# Altium schematic symbol library etx-board.SCHLIB: 7 symbols
Pins are listed as number, name and electrical type; pins without a type are passive.

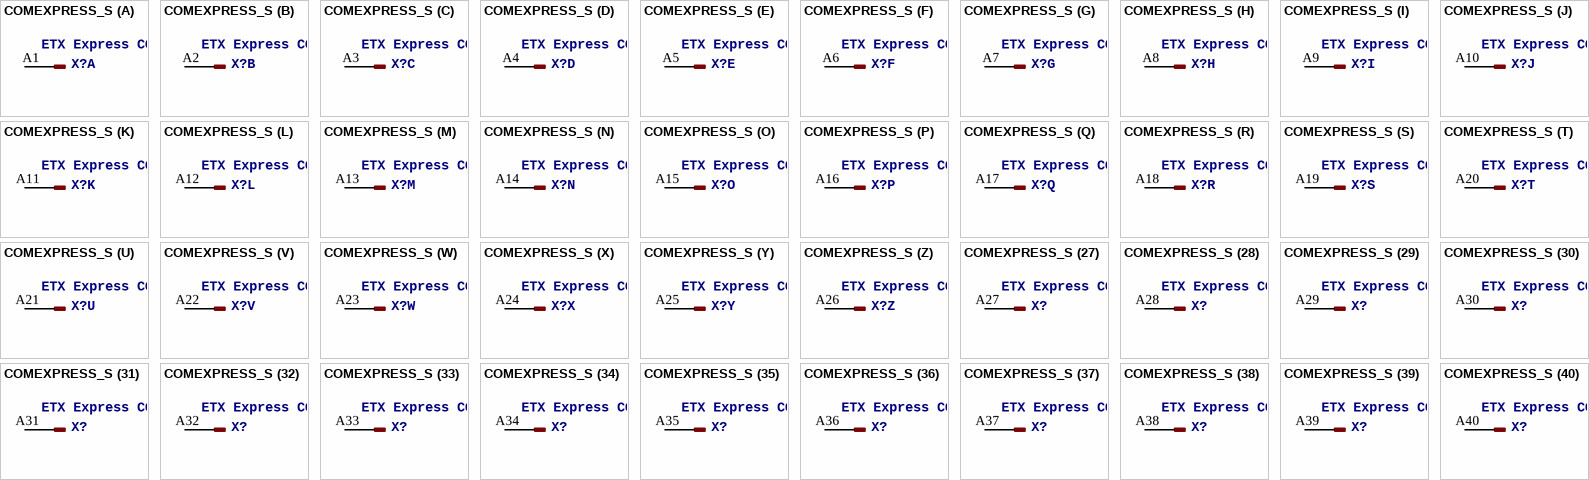
[diagram p0: symbol COMEXPRESS_S]

## COMEXPRESS_S
designator X?, comment ETX Express COM Express   Device generated with split-gate-in-device-to-single-gates.ulp from C-5353652-36-3.dev   at 04.12.08 14:01:30 with EAGLE Version 5.3.5 Copyright (c) 1988-2008 CadSoft Source: http://catalog.tycoelectronics.com .. ENG_CS_889092_0.5mm_FH_Conn_0906.pdf http://nordic.kontron.com/searchresult/?searchterm=etxe_designguide_v1.4.pdf
footprint C-5353652-36-3
part A pins: A1 1
part B pins: A2 1
part C pins: A3 1
part D pins: A4 1
part E pins: A5 1
part F pins: A6 1
part G pins: A7 1
part H pins: A8 1
part I pins: A9 1
part J pins: A10 1
part K pins: A11 1
part L pins: A12 1
part M pins: A13 1
part N pins: A14 1
part O pins: A15 1
part P pins: A16 1
part Q pins: A17 1
part R pins: A18 1
part S pins: A19 1
part T pins: A20 1
part U pins: A21 1
part V pins: A22 1
part W pins: A23 1
part X pins: A24 1
part Y pins: A25 1
part Z pins: A26 1
part 27 pins: A27 1
part 28 pins: A28 1
part 29 pins: A29 1
part 30 pins: A30 1
part 31 pins: A31 1
part 32 pins: A32 1
part 33 pins: A33 1
part 34 pins: A34 1
part 35 pins: A35 1
part 36 pins: A36 1
part 37 pins: A37 1
part 38 pins: A38 1
part 39 pins: A39 1
part 40 pins: A40 1
part 41 pins: A41 1
part 42 pins: A42 1
part 43 pins: A43 1
part 44 pins: A44 1
part 45 pins: A45 1
part 46 pins: A46 1
part 47 pins: A47 1
part 48 pins: A48 1
part 49 pins: A49 1
part 50 pins: A50 1
part 51 pins: A51 1
part 52 pins: A52 1
part 53 pins: A53 1
part 54 pins: A54 1
part 55 pins: A55 1
part 56 pins: A56 1
part 57 pins: A57 1
part 58 pins: A58 1
part 59 pins: A59 1
part 60 pins: A60 1
part 61 pins: A61 1
part 62 pins: A62 1
part 63 pins: A63 1
part 64 pins: A64 1
part 65 pins: A65 1
part 66 pins: A66 1
part 67 pins: A67 1
part 68 pins: A68 1
part 69 pins: A69 1
part 70 pins: A70 1
part 71 pins: A71 1
part 72 pins: A72 1
part 73 pins: A73 1
part 74 pins: A74 1
part 75 pins: A75 1
part 76 pins: A76 1
part 77 pins: A77 1
part 78 pins: A78 1
part 79 pins: A79 1
part 80 pins: A80 1
part 81 pins: A81 1
part 82 pins: A82 1
part 83 pins: A83 1
part 84 pins: A84 1
part 85 pins: A85 1
part 86 pins: A86 1
part 87 pins: A87 1
part 88 pins: A88 1
part 89 pins: A89 1
part 90 pins: A90 1
part 91 pins: A91 1
part 92 pins: A92 1
part 93 pins: A93 1
part 94 pins: A94 1
part 95 pins: A95 1
part 96 pins: A96 1
part 97 pins: A97 1
part 98 pins: A98 1
part 99 pins: A99 1
part 100 pins: A100 1
part 101 pins: A101 1
part 102 pins: A102 1
part 103 pins: A103 1
part 104 pins: A104 1
part 105 pins: A105 1
part 106 pins: A106 1
part 107 pins: A107 1
part 108 pins: A108 1
part 109 pins: A109 1
part 110 pins: A110 1
part 111 pins: B1 1
part 112 pins: B2 1
part 113 pins: B3 1
part 114 pins: B4 1
part 115 pins: B5 1
part 116 pins: B6 1
part 117 pins: B7 1
part 118 pins: B8 1
part 119 pins: B9 1
part 120 pins: B10 1
part 121 pins: B11 1
part 122 pins: B12 1
part 123 pins: B13 1
part 124 pins: B14 1
part 125 pins: B15 1
part 126 pins: B16 1
part 127 pins: B17 1
part 128 pins: B18 1
part 129 pins: B19 1
part 130 pins: B20 1
part 131 pins: B21 1
part 132 pins: B22 1
part 133 pins: B23 1
part 134 pins: B24 1
part 135 pins: B25 1
part 136 pins: B26 1
part 137 pins: B27 1
part 138 pins: B28 1
part 139 pins: B29 1
part 140 pins: B30 1
part 141 pins: B31 1
part 142 pins: B32 1
part 143 pins: B33 1
part 144 pins: B34 1
part 145 pins: B35 1
part 146 pins: B36 1
part 147 pins: B37 1
part 148 pins: B38 1
part 149 pins: B39 1
part 150 pins: B40 1
part 151 pins: B41 1
part 152 pins: B42 1
part 153 pins: B43 1
part 154 pins: B44 1
part 155 pins: B45 1
part 156 pins: B46 1
part 157 pins: B47 1
part 158 pins: B48 1
part 159 pins: B49 1
part 160 pins: B50 1
part 161 pins: B51 1
part 162 pins: B52 1
part 163 pins: B53 1
part 164 pins: B54 1
part 165 pins: B55 1
part 166 pins: B56 1
part 167 pins: B57 1
part 168 pins: B58 1
part 169 pins: B59 1
part 170 pins: B60 1
part 171 pins: B61 1
part 172 pins: B62 1
part 173 pins: B63 1
part 174 pins: B64 1
part 175 pins: B65 1
part 176 pins: B66 1
part 177 pins: B67 1
part 178 pins: B68 1
part 179 pins: B69 1
part 180 pins: B70 1
part 181 pins: B71 1
part 182 pins: B72 1
part 183 pins: B73 1
part 184 pins: B74 1
part 185 pins: B75 1
part 186 pins: B76 1
part 187 pins: B77 1
part 188 pins: B78 1
part 189 pins: B79 1
part 190 pins: B80 1
part 191 pins: B81 1
part 192 pins: B82 1
part 193 pins: B83 1
part 194 pins: B84 1
part 195 pins: B85 1
part 196 pins: B86 1
part 197 pins: B87 1
part 198 pins: B88 1
part 199 pins: B89 1
part 200 pins: B90 1
part 201 pins: B91 1
part 202 pins: B92 1
part 203 pins: B93 1
part 204 pins: B94 1
part 205 pins: B95 1
part 206 pins: B96 1
part 207 pins: B97 1
part 208 pins: B98 1
part 209 pins: B99 1
part 210 pins: B100 1
part 211 pins: B101 1
part 212 pins: B102 1
part 213 pins: B103 1
part 214 pins: B104 1
part 215 pins: B105 1
part 216 pins: B106 1
part 217 pins: B107 1
part 218 pins: B108 1
part 219 pins: B109 1
part 220 pins: B110 1
part 221 pins: C1 1
part 222 pins: C2 1
part 223 pins: C3 1
part 224 pins: C4 1
part 225 pins: C5 1
part 226 pins: C6 1
part 227 pins: C7 1
part 228 pins: C8 1
part 229 pins: C9 1
part 230 pins: C10 1
part 231 pins: C11 1
part 232 pins: C12 1
part 233 pins: C13 1
part 234 pins: C14 1
part 235 pins: C15 1
part 236 pins: C16 1
part 237 pins: C17 1
part 238 pins: C18 1
part 239 pins: C19 1
part 240 pins: C20 1
part 241 pins: C21 1
part 242 pins: C22 1
part 243 pins: C23 1
part 244 pins: C24 1
part 245 pins: C25 1
part 246 pins: C26 1
part 247 pins: C27 1
part 248 pins: C28 1
part 249 pins: C29 1
part 250 pins: C30 1
part 251 pins: C31 1
part 252 pins: C32 1
part 253 pins: C33 1
part 254 pins: C34 1
part 255 pins: C35 1
part 256 pins: C36 1
part 257 pins: C37 1
part 258 pins: C38 1
part 259 pins: C39 1
part 260 pins: C40 1
part 261 pins: C41 1
part 262 pins: C42 1
part 263 pins: C43 1
part 264 pins: C44 1
part 265 pins: C45 1
part 266 pins: C46 1
part 267 pins: C47 1
part 268 pins: C48 1
part 269 pins: C49 1
part 270 pins: C50 1
part 271 pins: C51 1
part 272 pins: C52 1
part 273 pins: C53 1
part 274 pins: C54 1
part 275 pins: C55 1
part 276 pins: C56 1
part 277 pins: C57 1
part 278 pins: C58 1
part 279 pins: C59 1
part 280 pins: C60 1
part 281 pins: C61 1
part 282 pins: C62 1
part 283 pins: C63 1
part 284 pins: C64 1
part 285 pins: C65 1
part 286 pins: C66 1
part 287 pins: C67 1
part 288 pins: C68 1
part 289 pins: C69 1
part 290 pins: C70 1
part 291 pins: C71 1
part 292 pins: C72 1
part 293 pins: C73 1
part 294 pins: C74 1
part 295 pins: C75 1
part 296 pins: C76 1
part 297 pins: C77 1
part 298 pins: C78 1
part 299 pins: C79 1
part 300 pins: C80 1
part 301 pins: C81 1
part 302 pins: C82 1
part 303 pins: C83 1
part 304 pins: C84 1
part 305 pins: C85 1
part 306 pins: C86 1
part 307 pins: C87 1
part 308 pins: C88 1
part 309 pins: C89 1
part 310 pins: C90 1
part 311 pins: C91 1
part 312 pins: C92 1
part 313 pins: C93 1
part 314 pins: C94 1
part 315 pins: C95 1
part 316 pins: C96 1
part 317 pins: C97 1
part 318 pins: C98 1
part 319 pins: C99 1
part 320 pins: C100 1
part 321 pins: C101 1
part 322 pins: C102 1
part 323 pins: C103 1
part 324 pins: C104 1
part 325 pins: C105 1
part 326 pins: C106 1
part 327 pins: C107 1
part 328 pins: C108 1
part 329 pins: C109 1
part 330 pins: C110 1
part 331 pins: D1 1
part 332 pins: D2 1
part 333 pins: D3 1
part 334 pins: D4 1
part 335 pins: D5 1
part 336 pins: D6 1
part 337 pins: D7 1
part 338 pins: D8 1
part 339 pins: D9 1
part 340 pins: D10 1
part 341 pins: D11 1
part 342 pins: D12 1
part 343 pins: D13 1
part 344 pins: D14 1
part 345 pins: D15 1
part 346 pins: D16 1
part 347 pins: D17 1
part 348 pins: D18 1
part 349 pins: D19 1
part 350 pins: D20 1
part 351 pins: D21 1
part 352 pins: D22 1
part 353 pins: D23 1
part 354 pins: D24 1
part 355 pins: D25 1
part 356 pins: D26 1
part 357 pins: D27 1
part 358 pins: D28 1
part 359 pins: D29 1
part 360 pins: D30 1
part 361 pins: D31 1
part 362 pins: D32 1
part 363 pins: D33 1
part 364 pins: D34 1
part 365 pins: D35 1
part 366 pins: D36 1
part 367 pins: D37 1
part 368 pins: D38 1
part 369 pins: D39 1
part 370 pins: D40 1
part 371 pins: D41 1
part 372 pins: D42 1
part 373 pins: D43 1
part 374 pins: D44 1
part 375 pins: D45 1
part 376 pins: D46 1
part 377 pins: D47 1
part 378 pins: D48 1
part 379 pins: D49 1
part 380 pins: D50 1
part 381 pins: D51 1
part 382 pins: D52 1
part 383 pins: D53 1
part 384 pins: D54 1
part 385 pins: D55 1
part 386 pins: D56 1
part 387 pins: D57 1
part 388 pins: D58 1
part 389 pins: D59 1
part 390 pins: D60 1
part 391 pins: D61 1
part 392 pins: D62 1
part 393 pins: D63 1
part 394 pins: D64 1
part 395 pins: D65 1
part 396 pins: D66 1
part 397 pins: D67 1
part 398 pins: D68 1
part 399 pins: D69 1
part 400 pins: D70 1
part 401 pins: D71 1
part 402 pins: D72 1
part 403 pins: D73 1
part 404 pins: D74 1
part 405 pins: D75 1
part 406 pins: D76 1
part 407 pins: D77 1
part 408 pins: D78 1
part 409 pins: D79 1
part 410 pins: D80 1
part 411 pins: D81 1
part 412 pins: D82 1
part 413 pins: D83 1
part 414 pins: D84 1
part 415 pins: D85 1
part 416 pins: D86 1
part 417 pins: D87 1
part 418 pins: D88 1
part 419 pins: D89 1
part 420 pins: D90 1
part 421 pins: D91 1
part 422 pins: D92 1
part 423 pins: D93 1
part 424 pins: D94 1
part 425 pins: D95 1
part 426 pins: D96 1
part 427 pins: D97 1
part 428 pins: D98 1
part 429 pins: D99 1
part 430 pins: D100 1
part 431 pins: D101 1
part 432 pins: D102 1
part 433 pins: D103 1
part 434 pins: D104 1
part 435 pins: D105 1
part 436 pins: D106 1
part 437 pins: D107 1
part 438 pins: D108 1
part 439 pins: D109 1
part 440 pins: D110 1

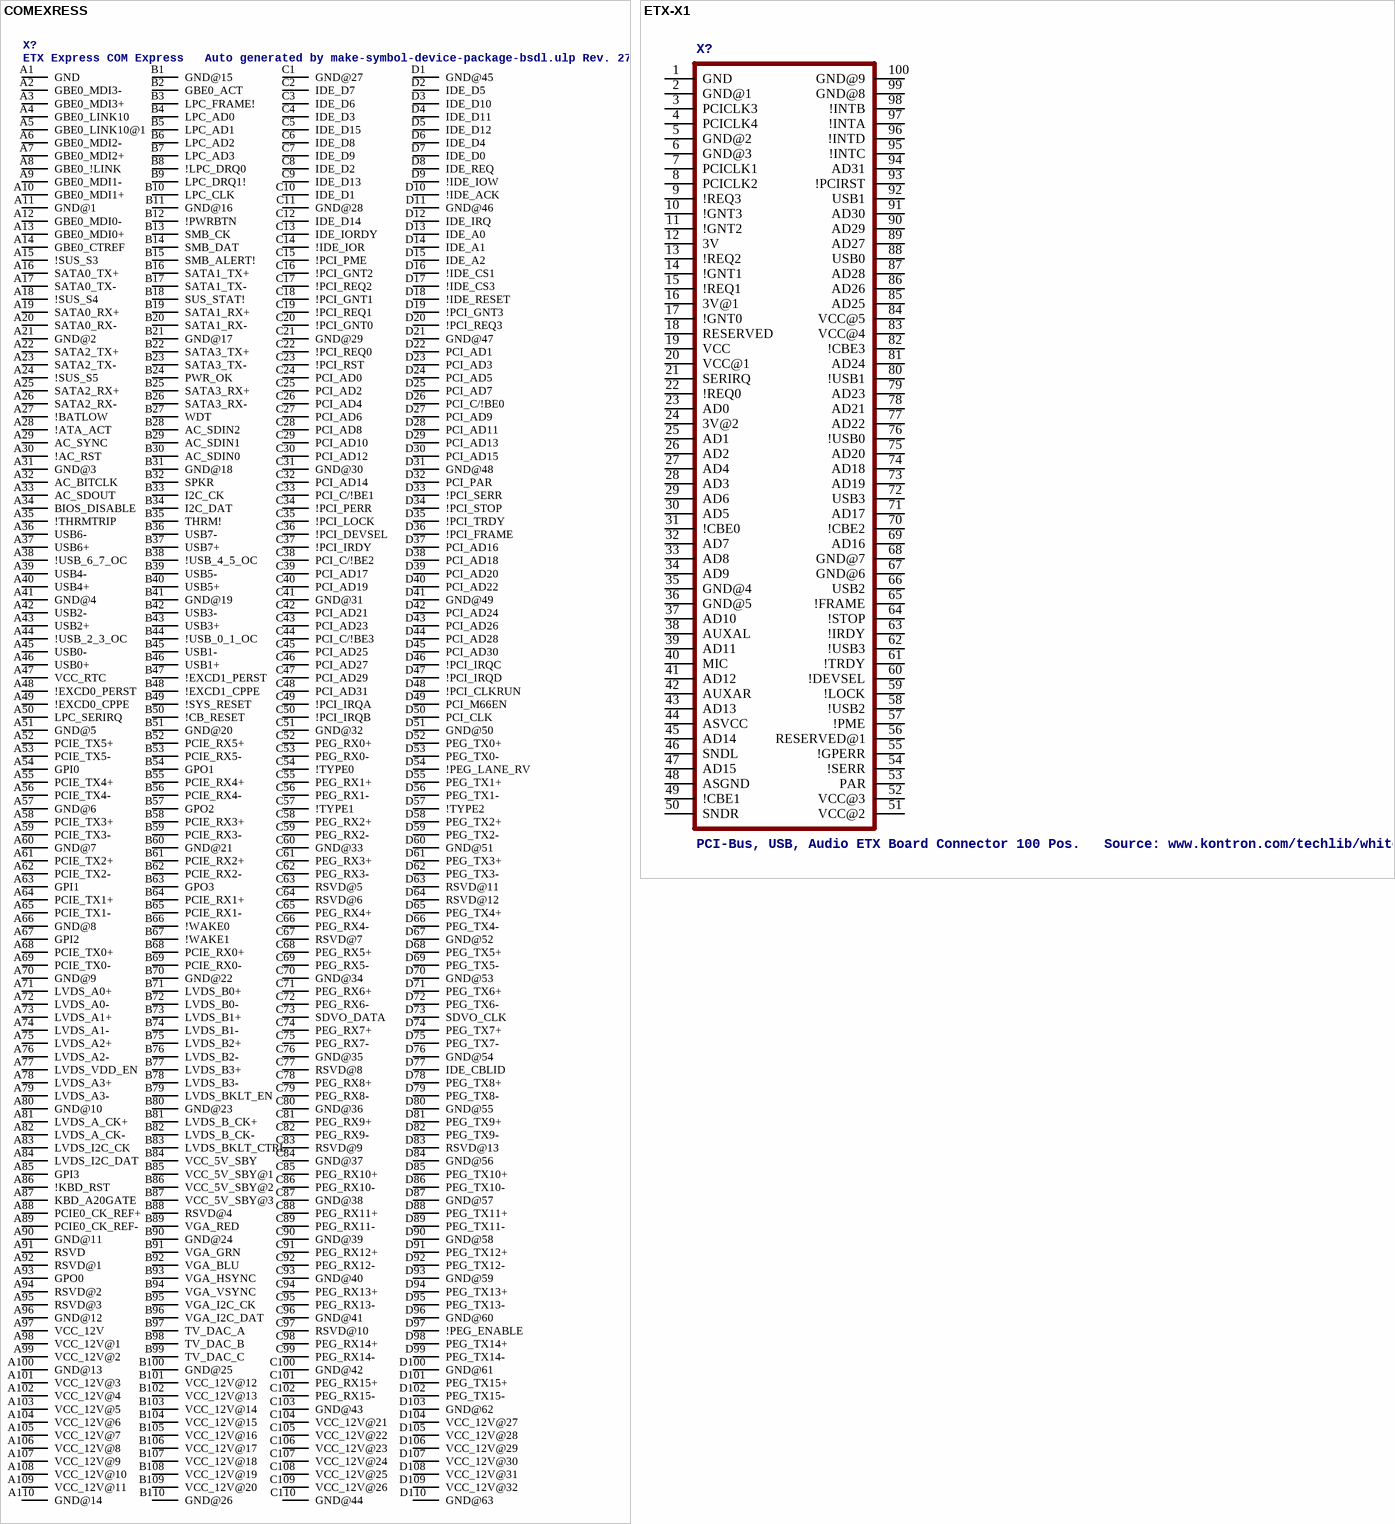
[diagram p1: symbols COMEXRESS to ETX-X1]

## COMEXRESS
designator X?, comment ETX Express COM Express   Auto generated by make-symbol-device-package-bsdl.ulp Rev. 27 Source: http://catalog.tycoelectronics.com .. ENG_CS_889092_0.5mm_FH_Conn_0906.pdf http://nordic.kontron.com/searchresult/?searchterm=etxe_designguide_v1.4.pdf
footprint C-5353652-36-3
pins: A1 GND, A2 GBE0_MDI3-, A3 GBE0_MDI3+, A4 GBE0_LINK10, A5 GBE0_LINK10@1, A6 GBE0_MDI2-, A7 GBE0_MDI2+, A8 GBE0_!LINK, A9 GBE0_MDI1-, A10 GBE0_MDI1+, A11 GND@1, A12 GBE0_MDI0-, A13 GBE0_MDI0+, A14 GBE0_CTREF, A15 !SUS_S3, A16 SATA0_TX+, A17 SATA0_TX-, A18 !SUS_S4, A19 SATA0_RX+, A20 SATA0_RX-, A21 GND@2, A22 SATA2_TX+, A23 SATA2_TX-, A24 !SUS_S5, A25 SATA2_RX+, A26 SATA2_RX-, A27 !BATLOW, A28 !ATA_ACT, A29 AC_SYNC, A30 !AC_RST, A31 GND@3, A32 AC_BITCLK, A33 AC_SDOUT, A34 BIOS_DISABLE, A35 !THRMTRIP, A36 USB6-, A37 USB6+, A38 !USB_6_7_OC, A39 USB4-, A40 USB4+, A41 GND@4, A42 USB2-, A43 USB2+, A44 !USB_2_3_OC, A45 USB0-, A46 USB0+, A47 VCC_RTC, A48 !EXCD0_PERST, A49 !EXCD0_CPPE, A50 LPC_SERIRQ, A51 GND@5, A52 PCIE_TX5+, A53 PCIE_TX5-, A54 GPI0, A55 PCIE_TX4+, A56 PCIE_TX4-, A57 GND@6, A58 PCIE_TX3+, A59 PCIE_TX3-, A60 GND@7, A61 PCIE_TX2+, A62 PCIE_TX2-, A63 GPI1, A64 PCIE_TX1+, A65 PCIE_TX1-, A66 GND@8, A67 GPI2, A68 PCIE_TX0+, A69 PCIE_TX0-, A70 GND@9, A71 LVDS_A0+, A72 LVDS_A0-, A73 LVDS_A1+, A74 LVDS_A1-, A75 LVDS_A2+, A76 LVDS_A2-, A77 LVDS_VDD_EN, A78 LVDS_A3+, A79 LVDS_A3-, A80 GND@10, A81 LVDS_A_CK+, A82 LVDS_A_CK-, A83 LVDS_I2C_CK, A84 LVDS_I2C_DAT, A85 GPI3, A86 !KBD_RST, A87 KBD_A20GATE, A88 PCIE0_CK_REF+, A89 PCIE0_CK_REF-, A90 GND@11, A91 RSVD, A92 RSVD@1, A93 GPO0, A94 RSVD@2, A95 RSVD@3, A96 GND@12, A97 VCC_12V, A98 VCC_12V@1, A99 VCC_12V@2, A100 GND@13, A101 VCC_12V@3, A102 VCC_12V@4, A103 VCC_12V@5, A104 VCC_12V@6, A105 VCC_12V@7, A106 VCC_12V@8, A107 VCC_12V@9, A108 VCC_12V@10, A109 VCC_12V@11, A110 GND@14, B1 GND@15, B2 GBE0_ACT, B3 LPC_FRAME!, B4 LPC_AD0, B5 LPC_AD1, B6 LPC_AD2, B7 LPC_AD3, B8 !LPC_DRQ0, B9 LPC_DRQ1!, B10 LPC_CLK, B11 GND@16, B12 !PWRBTN, B13 SMB_CK, B14 SMB_DAT, B15 SMB_ALERT!, B16 SATA1_TX+, B17 SATA1_TX-, B18 SUS_STAT!, B19 SATA1_RX+, B20 SATA1_RX-, B21 GND@17, B22 SATA3_TX+, B23 SATA3_TX-, B24 PWR_OK, B25 SATA3_RX+, B26 SATA3_RX-, B27 WDT, B28 AC_SDIN2, B29 AC_SDIN1, B30 AC_SDIN0, B31 GND@18, B32 SPKR, B33 I2C_CK, B34 I2C_DAT, B35 THRM!, B36 USB7-, B37 USB7+, B38 !USB_4_5_OC, B39 USB5-, B40 USB5+, B41 GND@19, B42 USB3-, B43 USB3+, B44 !USB_0_1_OC, B45 USB1-, B46 USB1+, B47 !EXCD1_PERST, B48 !EXCD1_CPPE, B49 !SYS_RESET, B50 !CB_RESET, B51 GND@20, B52 PCIE_RX5+, B53 PCIE_RX5-, B54 GPO1, B55 PCIE_RX4+, B56 PCIE_RX4-, B57 GPO2, B58 PCIE_RX3+, B59 PCIE_RX3-, B60 GND@21, B61 PCIE_RX2+, B62 PCIE_RX2-, B63 GPO3, B64 PCIE_RX1+, B65 PCIE_RX1-, B66 !WAKE0, B67 !WAKE1, B68 PCIE_RX0+, B69 PCIE_RX0-, B70 GND@22, B71 LVDS_B0+, B72 LVDS_B0-, B73 LVDS_B1+, B74 LVDS_B1-, B75 LVDS_B2+, B76 LVDS_B2-, B77 LVDS_B3+, B78 LVDS_B3-, B79 LVDS_BKLT_EN, B80 GND@23, B81 LVDS_B_CK+, B82 LVDS_B_CK-, B83 LVDS_BKLT_CTRL, B84 VCC_5V_SBY, B85 VCC_5V_SBY@1, B86 VCC_5V_SBY@2, B87 VCC_5V_SBY@3, B88 RSVD@4, B89 VGA_RED, B90 GND@24, B91 VGA_GRN, B92 VGA_BLU, B93 VGA_HSYNC, B94 VGA_VSYNC, B95 VGA_I2C_CK, B96 VGA_I2C_DAT, B97 TV_DAC_A, B98 TV_DAC_B, B99 TV_DAC_C, B100 GND@25, B101 VCC_12V@12, B102 VCC_12V@13, B103 VCC_12V@14, B104 VCC_12V@15, B105 VCC_12V@16, B106 VCC_12V@17, B107 VCC_12V@18, B108 VCC_12V@19, B109 VCC_12V@20, B110 GND@26, C1 GND@27, C2 IDE_D7, C3 IDE_D6, C4 IDE_D3, C5 IDE_D15, C6 IDE_D8, C7 IDE_D9, C8 IDE_D2, C9 IDE_D13, C10 IDE_D1, C11 GND@28, C12 IDE_D14, C13 IDE_IORDY, C14 !IDE_IOR, C15 !PCI_PME, C16 !PCI_GNT2, C17 !PCI_REQ2, C18 !PCI_GNT1, C19 !PCI_REQ1, C20 !PCI_GNT0, C21 GND@29, C22 !PCI_REQ0, C23 !PCI_RST, C24 PCI_AD0, C25 PCI_AD2, C26 PCI_AD4, C27 PCI_AD6, C28 PCI_AD8, C29 PCI_AD10, C30 PCI_AD12, C31 GND@30, C32 PCI_AD14, C33 PCI_C/!BE1, C34 !PCI_PERR, C35 !PCI_LOCK, C36 !PCI_DEVSEL, C37 !PCI_IRDY, C38 PCI_C/!BE2, C39 PCI_AD17, C40 PCI_AD19, C41 GND@31, C42 PCI_AD21, C43 PCI_AD23, C44 PCI_C/!BE3, C45 PCI_AD25, C46 PCI_AD27, C47 PCI_AD29, C48 PCI_AD31, C49 !PCI_IRQA, C50 !PCI_IRQB, C51 GND@32, C52 PEG_RX0+, C53 PEG_RX0-, C54 !TYPE0, C55 PEG_RX1+, C56 PEG_RX1-, C57 !TYPE1, C58 PEG_RX2+, C59 PEG_RX2-, C60 GND@33, C61 PEG_RX3+, C62 PEG_RX3-, C63 RSVD@5, C64 RSVD@6, C65 PEG_RX4+, C66 PEG_RX4-, C67 RSVD@7, C68 PEG_RX5+, C69 PEG_RX5-, C70 GND@34, C71 PEG_RX6+, C72 PEG_RX6-, C73 SDVO_DATA, C74 PEG_RX7+, C75 PEG_RX7-, C76 GND@35, C77 RSVD@8, C78 PEG_RX8+, C79 PEG_RX8-, C80 GND@36, C81 PEG_RX9+, C82 PEG_RX9-, C83 RSVD@9, C84 GND@37, C85 PEG_RX10+, C86 PEG_RX10-, C87 GND@38, C88 PEG_RX11+, C89 PEG_RX11-, C90 GND@39, C91 PEG_RX12+, C92 PEG_RX12-, C93 GND@40, C94 PEG_RX13+, C95 PEG_RX13-, C96 GND@41, C97 RSVD@10, C98 PEG_RX14+, C99 PEG_RX14-, C100 GND@42, C101 PEG_RX15+, C102 PEG_RX15-, C103 GND@43, C104 VCC_12V@21, C105 VCC_12V@22, C106 VCC_12V@23, C107 VCC_12V@24, C108 VCC_12V@25, C109 VCC_12V@26, C110 GND@44, D1 GND@45, D2 IDE_D5, D3 IDE_D10, D4 IDE_D11, D5 IDE_D12, D6 IDE_D4, D7 IDE_D0, D8 IDE_REQ, D9 !IDE_IOW, D10 !IDE_ACK, D11 GND@46, D12 IDE_IRQ, D13 IDE_A0, D14 IDE_A1, D15 IDE_A2, D16 !IDE_CS1, D17 !IDE_CS3, D18 !IDE_RESET, D19 !PCI_GNT3, D20 !PCI_REQ3, D21 GND@47, D22 PCI_AD1, D23 PCI_AD3, D24 PCI_AD5, D25 PCI_AD7, D26 PCI_C/!BE0, D27 PCI_AD9, D28 PCI_AD11, D29 PCI_AD13, D30 PCI_AD15, D31 GND@48, D32 PCI_PAR, D33 !PCI_SERR, D34 !PCI_STOP, D35 !PCI_TRDY, D36 !PCI_FRAME, D37 PCI_AD16, D38 PCI_AD18, D39 PCI_AD20, D40 PCI_AD22, D41 GND@49, D42 PCI_AD24, D43 PCI_AD26, D44 PCI_AD28, D45 PCI_AD30, D46 !PCI_IRQC, D47 !PCI_IRQD, D48 !PCI_CLKRUN, D49 PCI_M66EN, D50 PCI_CLK, D51 GND@50, D52 PEG_TX0+, D53 PEG_TX0-, D54 !PEG_LANE_RV, D55 PEG_TX1+, D56 PEG_TX1-, D57 !TYPE2, D58 PEG_TX2+, D59 PEG_TX2-, D60 GND@51, D61 PEG_TX3+, D62 PEG_TX3-, D63 RSVD@11, D64 RSVD@12, D65 PEG_TX4+, D66 PEG_TX4-, D67 GND@52, D68 PEG_TX5+, D69 PEG_TX5-, D70 GND@53, D71 PEG_TX6+, D72 PEG_TX6-, D73 SDVO_CLK, D74 PEG_TX7+, D75 PEG_TX7-, D76 GND@54, D77 IDE_CBLID, D78 PEG_TX8+, D79 PEG_TX8-, D80 GND@55, D81 PEG_TX9+, D82 PEG_TX9-, D83 RSVD@13, D84 GND@56, D85 PEG_TX10+, D86 PEG_TX10-, D87 GND@57, D88 PEG_TX11+, D89 PEG_TX11-, D90 GND@58, D91 PEG_TX12+, D92 PEG_TX12-, D93 GND@59, D94 PEG_TX13+, D95 PEG_TX13-, D96 GND@60, D97 !PEG_ENABLE, D98 PEG_TX14+, D99 PEG_TX14-, D100 GND@61, D101 PEG_TX15+, D102 PEG_TX15-, D103 GND@62, D104 VCC_12V@27, D105 VCC_12V@28, D106 VCC_12V@29, D107 VCC_12V@30, D108 VCC_12V@31, D109 VCC_12V@32, D110 GND@63

## ETX-X1
designator X?, comment PCI-Bus, USB, Audio ETX Board Connector 100 Pos.   Source: www.kontron.com/techlib/whitepapers/etx_spec.pdf
footprint FX8-100S-SV
pins: 1 GND (power), 2 GND@1 (power), 3 PCICLK3, 4 PCICLK4, 5 GND@2 (power), 6 GND@3 (power), 7 PCICLK1, 8 PCICLK2, 9 !REQ3, 10 !GNT3, 11 !GNT2, 12 3V (power), 13 !REQ2, 14 !GNT1, 15 !REQ1, 16 3V@1 (power), 17 !GNT0, 18 RESERVED, 19 VCC (power), 20 VCC@1 (power), 21 SERIRQ, 22 !REQ0, 23 AD0, 24 3V@2 (power), 25 AD1, 26 AD2, 27 AD4, 28 AD3, 29 AD6, 30 AD5, 31 !CBE0, 32 AD7, 33 AD8, 34 AD9, 35 GND@4 (power), 36 GND@5, 37 AD10, 38 AUXAL, 39 AD11, 40 MIC, 41 AD12, 42 AUXAR, 43 AD13, 44 ASVCC (power), 45 AD14, 46 SNDL, 47 AD15, 48 ASGND (power), 49 !CBE1, 50 SNDR, 51 VCC@2 (power), 52 VCC@3 (power), 53 PAR, 54 !SERR, 55 !GPERR, 56 RESERVED@1, 57 !PME, 58 !USB2, 59 !LOCK, 60 !DEVSEL, 61 !TRDY, 62 !USB3, 63 !IRDY, 64 !STOP, 65 !FRAME, 66 USB2, 67 GND@6 (power), 68 GND@7 (power), 69 AD16, 70 !CBE2, 71 AD17, 72 USB3, 73 AD19, 74 AD18, 75 AD20, 76 !USB0, 77 AD22, 78 AD21, 79 AD23, 80 !USB1, 81 AD24, 82 !CBE3, 83 VCC@4 (power), 84 VCC@5 (power), 85 AD25, 86 AD26, 87 AD28, 88 USB0, 89 AD27, 90 AD29, 91 AD30, 92 USB1, 93 !PCIRST, 94 AD31, 95 !INTC, 96 !INTD, 97 !INTA, 98 !INTB, 99 GND@8 (power), 100 GND@9 (power)

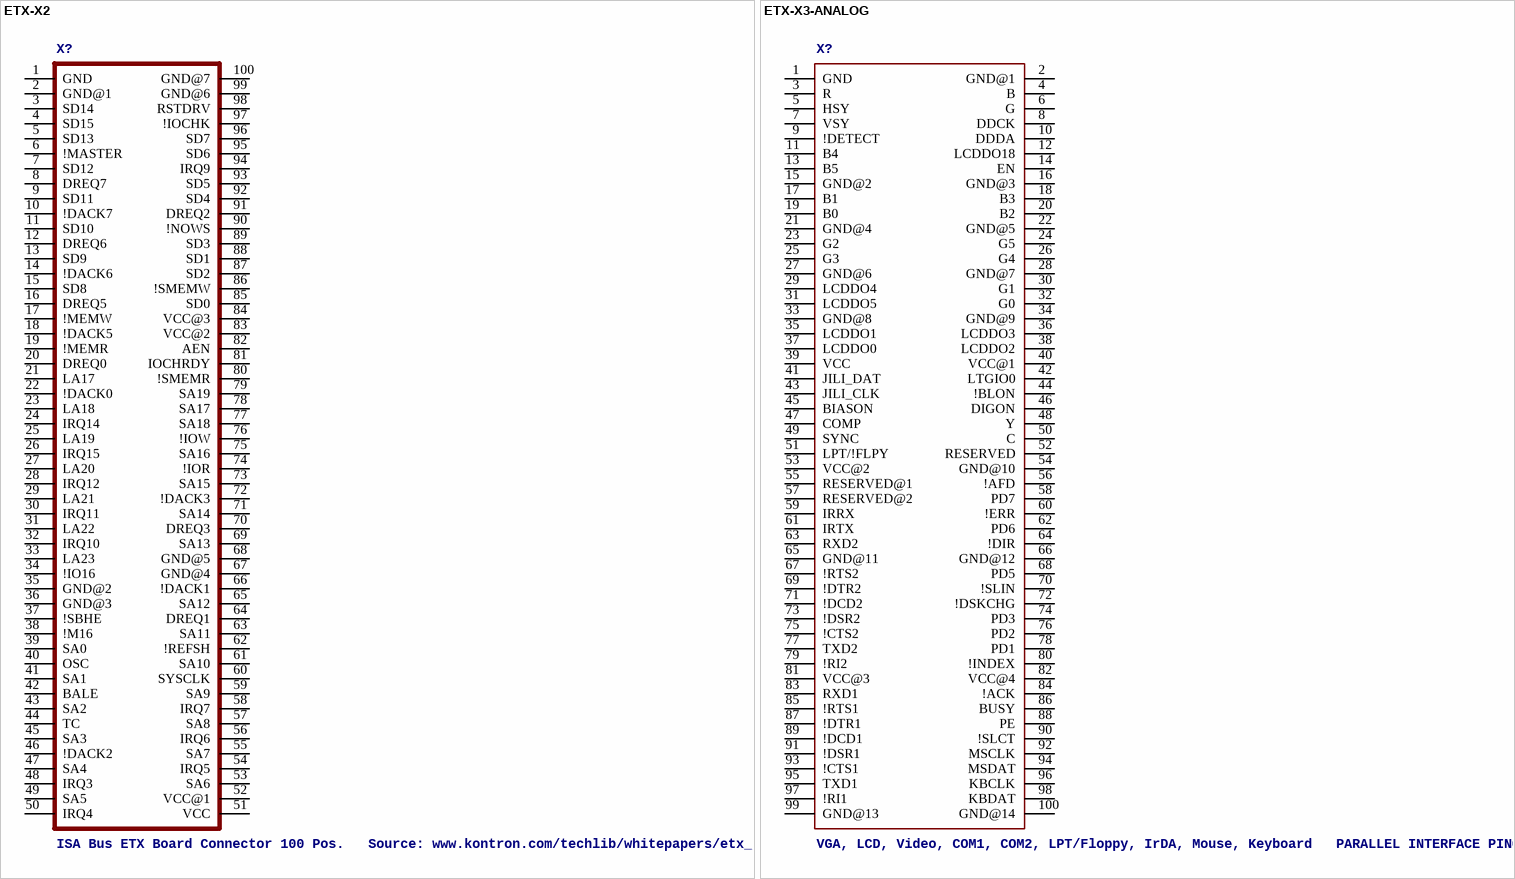
[diagram p2: symbols ETX-X2 to ETX-X3-ANALOG]

## ETX-X2
designator X?, comment ISA Bus ETX Board Connector 100 Pos.   Source: www.kontron.com/techlib/whitepapers/etx_spec.pdf
footprint FX8-100S-SV
pins: 1 GND (power), 2 GND@1 (power), 3 SD14, 4 SD15, 5 SD13, 6 !MASTER, 7 SD12, 8 DREQ7, 9 SD11, 10 !DACK7, 11 SD10, 12 DREQ6, 13 SD9, 14 !DACK6, 15 SD8, 16 DREQ5, 17 !MEMW, 18 !DACK5, 19 !MEMR, 20 DREQ0, 21 LA17, 22 !DACK0, 23 LA18, 24 IRQ14, 25 LA19, 26 IRQ15, 27 LA20, 28 IRQ12, 29 LA21, 30 IRQ11, 31 LA22, 32 IRQ10, 33 LA23, 34 !IO16, 35 GND@2 (power), 36 GND@3 (power), 37 !SBHE, 38 !M16, 39 SA0, 40 OSC, 41 SA1, 42 BALE, 43 SA2, 44 TC, 45 SA3, 46 !DACK2, 47 SA4, 48 IRQ3, 49 SA5, 50 IRQ4, 51 VCC (power), 52 VCC@1 (power), 53 SA6, 54 IRQ5, 55 SA7, 56 IRQ6, 57 SA8, 58 IRQ7, 59 SA9, 60 SYSCLK, 61 SA10, 62 !REFSH, 63 SA11, 64 DREQ1, 65 SA12, 66 !DACK1, 67 GND@4 (power), 68 GND@5 (power), 69 SA13, 70 DREQ3, 71 SA14, 72 !DACK3, 73 SA15, 74 !IOR, 75 SA16, 76 !IOW, 77 SA18, 78 SA17, 79 SA19, 80 !SMEMR, 81 IOCHRDY, 82 AEN, 83 VCC@2 (power), 84 VCC@3 (power), 85 SD0, 86 !SMEMW, 87 SD2, 88 SD1, 89 SD3, 90 !NOWS, 91 DREQ2, 92 SD4, 93 SD5, 94 IRQ9, 95 SD6, 96 SD7, 97 !IOCHK, 98 RSTDRV, 99 GND@6 (power), 100 GND@7 (power)

## ETX-X3-ANALOG
designator X?, comment VGA, LCD, Video, COM1, COM2, LPT/Floppy, IrDA, Mouse, Keyboard   PARALLEL INTERFACE PINOUT, FLOPPY SUPPORT MODE PINOUT ETX Board Connector 100 Pos. Source: www.kontron.com/techlib/whitepapers/etx_spec.pdf
footprint FX8-100S-SV
pins: 1 GND (power), 2 GND@1 (power), 3 R, 4 B, 5 HSY, 6 G, 7 VSY, 8 DDCK, 9 !DETECT, 10 DDDA, 11 B4, 12 LCDDO18, 13 B5, 14 EN, 15 GND@2 (power), 16 GND@3 (power), 17 B1, 18 B3, 19 B0, 20 B2, 21 GND@4 (power), 22 GND@5 (power), 23 G2, 24 G5, 25 G3, 26 G4, 27 GND@6 (power), 28 GND@7 (power), 29 LCDDO4, 30 G1, 31 LCDDO5, 32 G0, 33 GND@8 (power), 34 GND@9 (power), 35 LCDDO1, 36 LCDDO3, 37 LCDDO0, 38 LCDDO2, 39 VCC (power), 40 VCC@1 (power), 41 JILI_DAT, 42 LTGIO0, 43 JILI_CLK, 44 !BLON, 45 BIASON, 46 DIGON, 47 COMP, 48 Y, 49 SYNC, 50 C, 51 LPT/!FLPY, 52 RESERVED, 53 VCC@2 (power), 54 GND@10 (power), 55 RESERVED@1, 56 !AFD, 57 RESERVED@2, 58 PD7, 59 IRRX, 60 !ERR, 61 IRTX, 62 PD6, 63 RXD2, 64 !DIR, 65 GND@11 (power), 66 GND@12 (power), 67 !RTS2, 68 PD5, 69 !DTR2, 70 !SLIN, 71 !DCD2, 72 !DSKCHG, 73 !DSR2, 74 PD3, 75 !CTS2, 76 PD2, 77 TXD2, 78 PD1, 79 !RI2, 80 !INDEX, 81 VCC@3 (power), 82 VCC@4 (power), 83 RXD1, 84 !ACK, 85 !RTS1, 86 BUSY, 87 !DTR1, 88 PE, 89 !DCD1, 90 !SLCT, 91 !DSR1, 92 MSCLK, 93 !CTS1, 94 MSDAT, 95 TXD1, 96 KBCLK, 97 !RI1, 98 KBDAT, 99 GND@13 (power), 100 GND@14 (power)

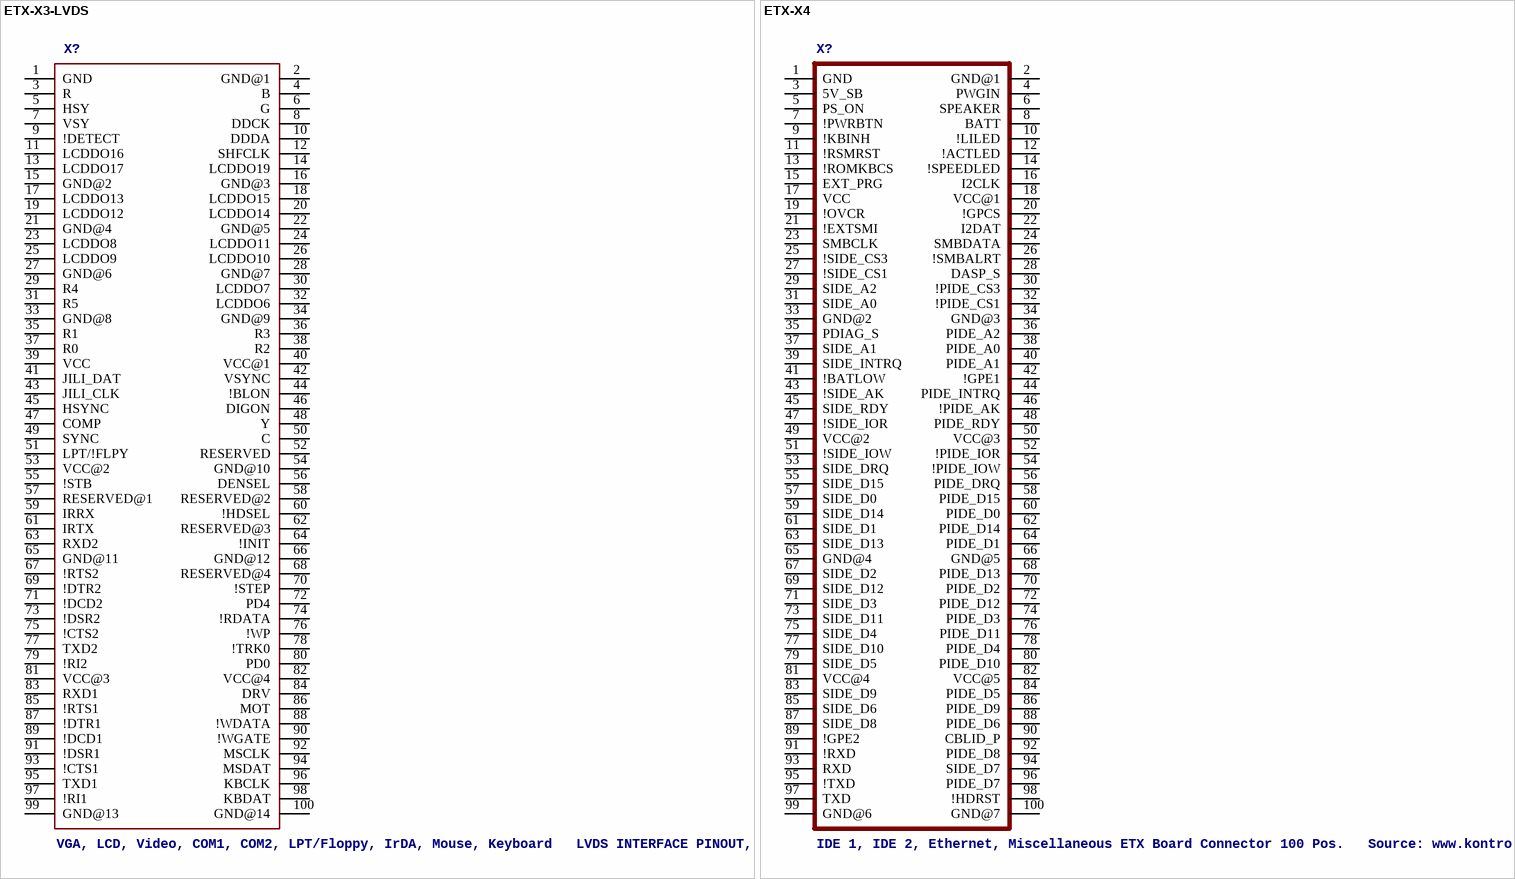
[diagram p3: symbols ETX-X3-LVDS to ETX-X4]

## ETX-X3-LVDS
designator X?, comment VGA, LCD, Video, COM1, COM2, LPT/Floppy, IrDA, Mouse, Keyboard   LVDS INTERFACE PINOUT, PARALLEL PORT MODE PINOUT ETX Board Connector 100 Pos. Source: www.kontron.com/techlib/whitepapers/etx_spec.pdf
footprint FX8-100S-SV
pins: 1 GND (power), 2 GND@1 (power), 3 R, 4 B, 5 HSY, 6 G, 7 VSY, 8 DDCK, 9 !DETECT, 10 DDDA, 11 LCDDO16, 12 SHFCLK, 13 LCDDO17, 14 LCDDO19, 15 GND@2 (power), 16 GND@3 (power), 17 LCDDO13, 18 LCDDO15, 19 LCDDO12, 20 LCDDO14, 21 GND@4 (power), 22 GND@5 (power), 23 LCDDO8, 24 LCDDO11, 25 LCDDO9, 26 LCDDO10, 27 GND@6 (power), 28 GND@7 (power), 29 R4, 30 LCDDO7, 31 R5, 32 LCDDO6, 33 GND@8 (power), 34 GND@9 (power), 35 R1, 36 R3, 37 R0, 38 R2, 39 VCC (power), 40 VCC@1 (power), 41 JILI_DAT, 42 VSYNC, 43 JILI_CLK, 44 !BLON, 45 HSYNC, 46 DIGON, 47 COMP, 48 Y, 49 SYNC, 50 C, 51 LPT/!FLPY, 52 RESERVED, 53 VCC@2 (power), 54 GND@10 (power), 55 !STB, 56 DENSEL, 57 RESERVED@1, 58 RESERVED@2, 59 IRRX, 60 !HDSEL, 61 IRTX, 62 RESERVED@3, 63 RXD2, 64 !INIT, 65 GND@11 (power), 66 GND@12 (power), 67 !RTS2, 68 RESERVED@4, 69 !DTR2, 70 !STEP, 71 !DCD2, 72 PD4, 73 !DSR2, 74 !RDATA, 75 !CTS2, 76 !WP, 77 TXD2, 78 !TRK0, 79 !RI2, 80 PD0, 81 VCC@3 (power), 82 VCC@4 (power), 83 RXD1, 84 DRV, 85 !RTS1, 86 MOT, 87 !DTR1, 88 !WDATA, 89 !DCD1, 90 !WGATE, 91 !DSR1, 92 MSCLK, 93 !CTS1, 94 MSDAT, 95 TXD1, 96 KBCLK, 97 !RI1, 98 KBDAT, 99 GND@13 (power), 100 GND@14 (power)

## ETX-X4
designator X?, comment IDE 1, IDE 2, Ethernet, Miscellaneous ETX Board Connector 100 Pos.   Source: www.kontron.com/techlib/whitepapers/etx_spec.pdf
footprint FX8-100S-SV
pins: 1 GND (power), 2 GND@1 (power), 3 5V_SB, 4 PWGIN, 5 PS_ON, 6 SPEAKER, 7 !PWRBTN, 8 BATT, 9 !KBINH, 10 !LILED, 11 !RSMRST, 12 !ACTLED, 13 !ROMKBCS, 14 !SPEEDLED, 15 EXT_PRG, 16 I2CLK, 17 VCC (power), 18 VCC@1 (power), 19 !OVCR, 20 !GPCS, 21 !EXTSMI, 22 I2DAT, 23 SMBCLK, 24 SMBDATA, 25 !SIDE_CS3, 26 !SMBALRT, 27 !SIDE_CS1, 28 DASP_S, 29 SIDE_A2, 30 !PIDE_CS3, 31 SIDE_A0, 32 !PIDE_CS1, 33 GND@2 (power), 34 GND@3 (power), 35 PDIAG_S, 36 PIDE_A2, 37 SIDE_A1, 38 PIDE_A0, 39 SIDE_INTRQ, 40 PIDE_A1, 41 !BATLOW, 42 !GPE1, 43 !SIDE_AK, 44 PIDE_INTRQ, 45 SIDE_RDY, 46 !PIDE_AK, 47 !SIDE_IOR, 48 PIDE_RDY, 49 VCC@2 (power), 50 VCC@3 (power), 51 !SIDE_IOW, 52 !PIDE_IOR, 53 SIDE_DRQ, 54 !PIDE_IOW, 55 SIDE_D15, 56 PIDE_DRQ, 57 SIDE_D0, 58 PIDE_D15, 59 SIDE_D14, 60 PIDE_D0, 61 SIDE_D1, 62 PIDE_D14, 63 SIDE_D13, 64 PIDE_D1, 65 GND@4 (power), 66 GND@5 (power), 67 SIDE_D2, 68 PIDE_D13, 69 SIDE_D12, 70 PIDE_D2, 71 SIDE_D3, 72 PIDE_D12, 73 SIDE_D11, 74 PIDE_D3, 75 SIDE_D4, 76 PIDE_D11, 77 SIDE_D10, 78 PIDE_D4, 79 SIDE_D5, 80 PIDE_D10, 81 VCC@4 (power), 82 VCC@5 (power), 83 SIDE_D9, 84 PIDE_D5, 85 SIDE_D6, 86 PIDE_D9, 87 SIDE_D8, 88 PIDE_D6, 89 !GPE2, 90 CBLID_P, 91 !RXD, 92 PIDE_D8, 93 RXD, 94 SIDE_D7, 95 !TXD, 96 PIDE_D7, 97 TXD, 98 !HDRST, 99 GND@6 (power), 100 GND@7 (power)